# EAGLE library part DFM-076B-NL-WD (library lcd)
ST7637orly? based STN display 27 pins SMD connector
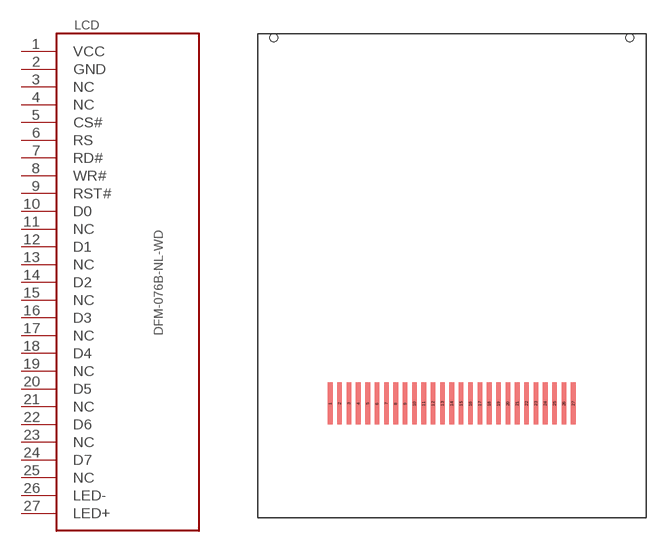
[diagram p2: symbol with the pads of DFM-076B; footprint DFM-076B]

Designator prefix LCD

## DFM-076B-NL-WD  [DFM-076B]
1  VCC  pwr
2  GND  pwr
3  NC  pas
4  NC  pas
5  CS#  in
6  RS  in
7  RD#  in
8  WR#  in
9  RST#  in
10  D0
11  NC  pas
12  D1
13  NC  pas
14  D2
15  NC  pas
16  D3
17  NC  pas
18  D4
19  NC  pas
20  D5
21  NC  pas
22  D6
23  NC  pas
24  D7
25  NC  pas
26  LED-  pwr
27  LED+  pwr

## Footprint DFM-076B (pad centres in mm)
smd 0.4 x 3.6: 1 -10.4,0; 2 -9.6,0; 3 -8.8,0; 4 -8,0; 5 -7.2,0; 6 -6.4,0; 7 -5.6,0; 8 -4.8,0; 9 -4,0; 10 -3.2,0; 11 -2.4,0; 12 -1.6,0; 13 -0.8,0; 14 0,0; 15 0.8,0; 16 1.6,0; 17 2.4,0; 18 3.2,0; 19 4,0; 20 4.8,0; 21 5.6,0; 22 6.4,0; 23 7.2,0; 24 8,0; 25 8.8,0; 26 9.6,0; 27 10.4,0
hole 0.7 at -15.225,31.35
hole 0.7 at 15.225,31.35